# EAGLE library part 104809-07 (library con-tyco-modu)
HEADER
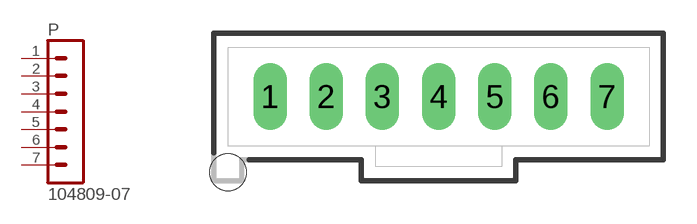
[diagram p48: symbol with the pads of 104809-07; footprint 104809-07]

Designator prefix P

## 104809-07  [104809-07]
1  1  pas
2  2  pas
3  3  pas
4  4  pas
5  5  pas
6  6  pas
7  7  pas

## Footprint 104809-07 (pad centres in mm)
HEADER
drill 1.016 long: 1 -7.62,0; 2 -5.08,0; 3 -2.54,0; 4 0,0; 5 2.54,0; 6 5.08,0; 7 7.62,0
hole 1.651 at -9.525,-3.429